# EAGLE library part MSP430F5340_RGZ_48 (library msp430f5340)
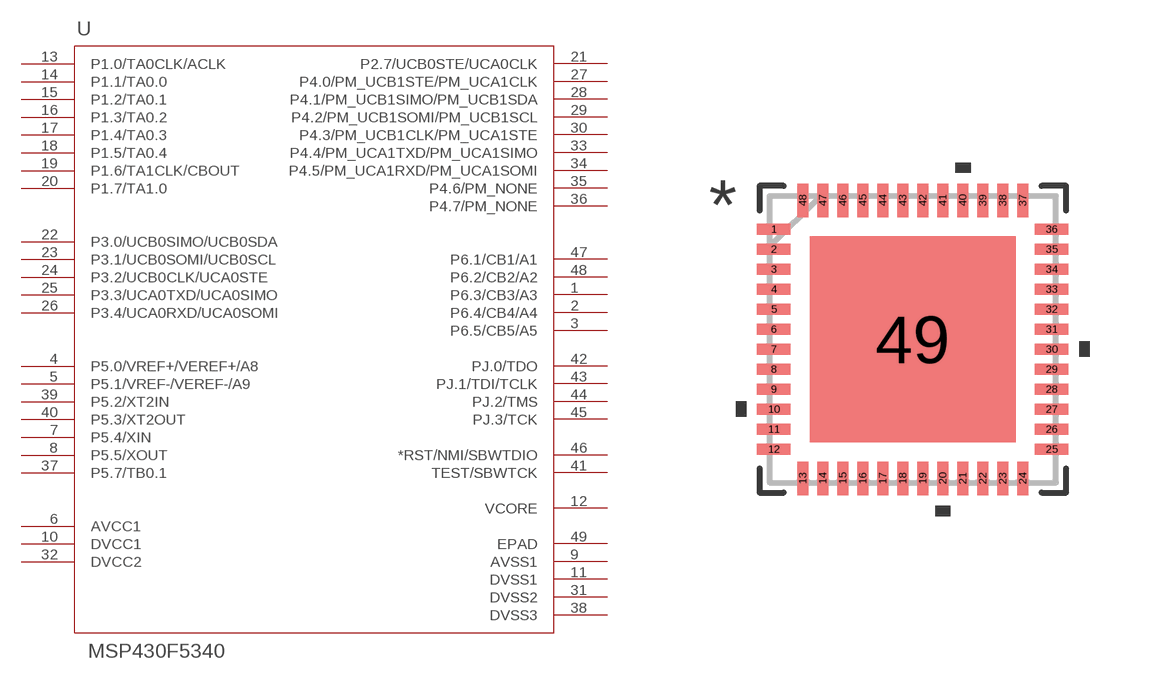
[diagram p0: symbol with the pads of RGZ48_5P15X5P15; footprint RGZ48_5P15X5P15]

Designator prefix U

## MSP430F5340_RGZ_48 (DATASHEETURL: http://www.ti.com/lit/gpn/MSP430F5340; DESCRIPTION: MSP430F534x Mixed Signal Microcontroller; FAMILY_NAME: 5 Series; GENERIC_PART_NUMBER: MSP430F5340; INDUSTRY_STD_PKG_TYPE: VQFN; MANUFACTURER: Texas Instruments; MANUFACTURER_PART_NUMBER: msp430f5340_rgz_48; PACKAGE_DESIGNATOR: RGZ; PIN_COUNT: 48; VENDOR: Texas Instruments)  [RGZ48_5P15X5P15]
1  P6.3/CB3/A3
2  P6.4/CB4/A4
3  P6.5/CB5/A5
4  P5.0/VREF+/VEREF+/A8
5  P5.1/VREF-/VEREF-/A9
6  AVCC1  pwr
7  P5.4/XIN
8  P5.5/XOUT
9  AVSS1  pwr
10  DVCC1  pwr
11  DVSS1  pwr
12  VCORE  pwr
13  P1.0/TA0CLK/ACLK
14  P1.1/TA0.0
15  P1.2/TA0.1
16  P1.3/TA0.2
17  P1.4/TA0.3
18  P1.5/TA0.4
19  P1.6/TA1CLK/CBOUT
20  P1.7/TA1.0
21  P2.7/UCB0STE/UCA0CLK
22  P3.0/UCB0SIMO/UCB0SDA
23  P3.1/UCB0SOMI/UCB0SCL
24  P3.2/UCB0CLK/UCA0STE
25  P3.3/UCA0TXD/UCA0SIMO
26  P3.4/UCA0RXD/UCA0SOMI
27  P4.0/PM_UCB1STE/PM_UCA1CLK
28  P4.1/PM_UCB1SIMO/PM_UCB1SDA
29  P4.2/PM_UCB1SOMI/PM_UCB1SCL
30  P4.3/PM_UCB1CLK/PM_UCA1STE
31  DVSS2  pwr
32  DVCC2  pwr
33  P4.4/PM_UCA1TXD/PM_UCA1SIMO
34  P4.5/PM_UCA1RXD/PM_UCA1SOMI
35  P4.6/PM_NONE
36  P4.7/PM_NONE
37  P5.7/TB0.1
38  DVSS3  pwr
39  P5.2/XT2IN
40  P5.3/XT2OUT
41  TEST/SBWTCK
42  PJ.0/TDO
43  PJ.1/TDI/TCLK
44  PJ.2/TMS
45  PJ.3/TCK
46  *RST/NMI/SBWTDIO
47  P6.1/CB1/A1
48  P6.2/CB2/A2
49  EPAD  pas

## Footprint RGZ48_5P15X5P15 (pad centres in mm)
smd 0.838 x 0.279: 1 -3.475,2.75; 2 -3.475,2.25; 3 -3.475,1.75; 4 -3.475,1.25; 5 -3.475,0.75; 6 -3.475,0.25; 7 -3.475,-0.25; 8 -3.475,-0.75; 9 -3.475,-1.25; 10 -3.475,-1.75; 11 -3.475,-2.25; 12 -3.475,-2.75; 25 3.475,-2.75; 26 3.475,-2.25; 27 3.475,-1.75; 28 3.475,-1.25; 29 3.475,-0.75; 30 3.475,-0.25; 31 3.475,0.25; 32 3.475,0.75; 33 3.475,1.25; 34 3.475,1.75; 35 3.475,2.25; 36 3.475,2.75
smd 0.279 x 0.838: 13 -2.751,-3.475; 14 -2.251,-3.475; 15 -1.75,-3.475; 16 -1.25,-3.475; 17 -0.75,-3.475; 18 -0.25,-3.475; 19 0.25,-3.475; 20 0.75,-3.475; 21 1.25,-3.475; 22 1.75,-3.475; 23 2.251,-3.475; 24 2.751,-3.475; 37 2.751,3.475; 38 2.251,3.475; 39 1.75,3.475; 40 1.25,3.475; 41 0.75,3.475; 42 0.25,3.475; 43 -0.25,3.475; 44 -0.75,3.475; 45 -1.25,3.475; 46 -1.75,3.475; 47 -2.251,3.475; 48 -2.751,3.475
smd 5.156 x 5.156: 49 0,0